# EAGLE library part MAX892LEUA+T (library U-Maxim-MAX892LEUA+T-power-switch)
MAX891L / MAX892L Current-Limited, High-Side P-Channel Switch with Thermal Shutdown
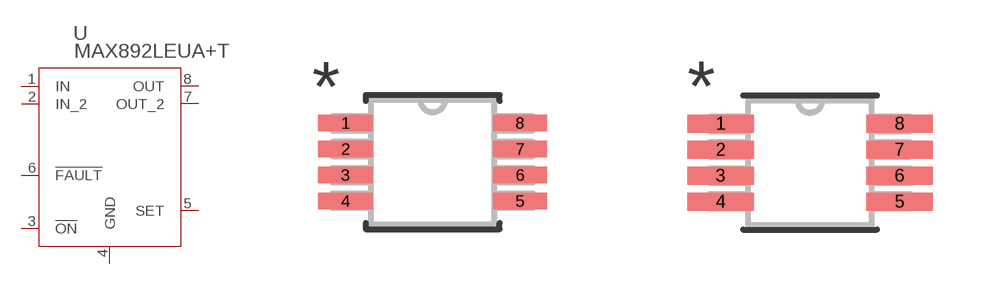
[diagram p0: symbol with the pads of 21-0036K; footprints 21-0036K, 21-0036K-M]

Designator prefix U

## MAX892LEUA+T (MANUFACTURER_PART_NUMBER: MAX892LEUA+T; VENDOR: Maxim Integrated Products)  [21-0036K]
1  IN  pwr
2  IN_2  pwr
3  !ON  in
4  GND  pwr
5  SET  in
6  !FAULT  out
7  OUT_2  pwr
8  OUT  pwr

## MAX892LEUA+T21-0036K-M (MANUFACTURER_PART_NUMBER: MAX892LEUA+T; VENDOR: Maxim Integrated Products)  [21-0036K-M]
1  IN_2  pwr
2  IN  pwr
3  !ON  in
4  GND  pwr
5  SET  in
6  !FAULT  out
7  OUT_2  pwr
8  OUT  pwr

## MAX892LEUA+T21-0036K-L (MANUFACTURER_PART_NUMBER: MAX892LEUA+T; VENDOR: Maxim Integrated Products)  [21-0036K-L]
Pads as for 21-0036K-M

## Footprint 21-0036K (pad centres in mm)
smd 1.36 x 0.416: 1 -2.184,0.975; 2 -2.184,0.325; 3 -2.184,-0.325; 4 -2.184,-0.975; 5 2.184,-0.975; 6 2.184,-0.325; 7 2.184,0.325; 8 2.184,0.975

## Footprint 21-0036K-M (pad centres in mm)
smd 1.66 x 0.456: 1 -2.234,0.975; 2 -2.234,0.325; 3 -2.234,-0.325; 4 -2.234,-0.975; 5 2.234,-0.975; 6 2.234,-0.325; 7 2.234,0.325; 8 2.234,0.975

## Footprint 21-0036K-L (pad centres in mm)
smd 1.06 x 0.376: 1 -2.134,0.975; 2 -2.134,0.325; 3 -2.134,-0.325; 4 -2.134,-0.975; 5 2.134,-0.975; 6 2.134,-0.325; 7 2.134,0.325; 8 2.134,0.975